# Altium footprint library Panasonic Footprints.PcbLib: 49 footprints (part 4 of 4)
Each footprint in its own frame and in the unit in brackets; x right, y up, seen from the top. Pads: shape width x height; smd on the part's side, far side on the other; paste and mask are expansions set on the pad; w line width, h text height; cw(c..) or ccw(c..) is an arc to the next point about the centre after c.
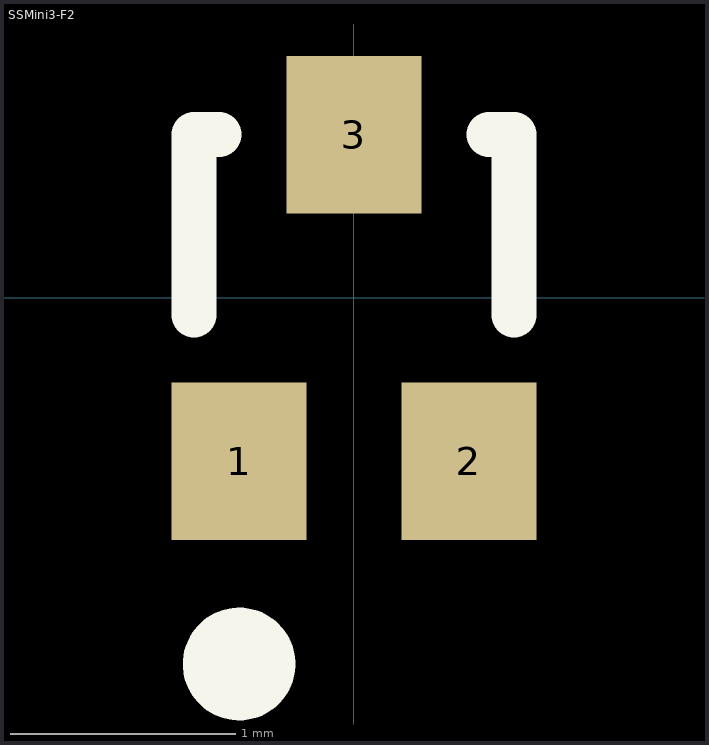
[diagram p3: the footprint, top view; thin cyan lines are the x and y axes]

## SSMini3-F2 [mm] "SM; 3 Flat Leads; Body 1.6 x 1.6 x 0.6 mm, inc leads (LxWxH typ)"
height 0.65
pads (3):
  rect 0.6x0.7 smd: 1(-0.51,-0.725) 2(0.51,-0.725) 3(0,0.725)
Top Overlay:
  circle w0.25: c-0.51,-1.625 r0.125
  lines w0.2: -0.71,-0.075 -0.71,0.725 -0.6,0.725 ; 0.6,0.725 0.71,0.725 0.71,-0.075